# Altium integrated library CON-ILUMINATION.IntLib: 16 symbols
Pins are listed as number, name and electrical type; pins without a type are passive.

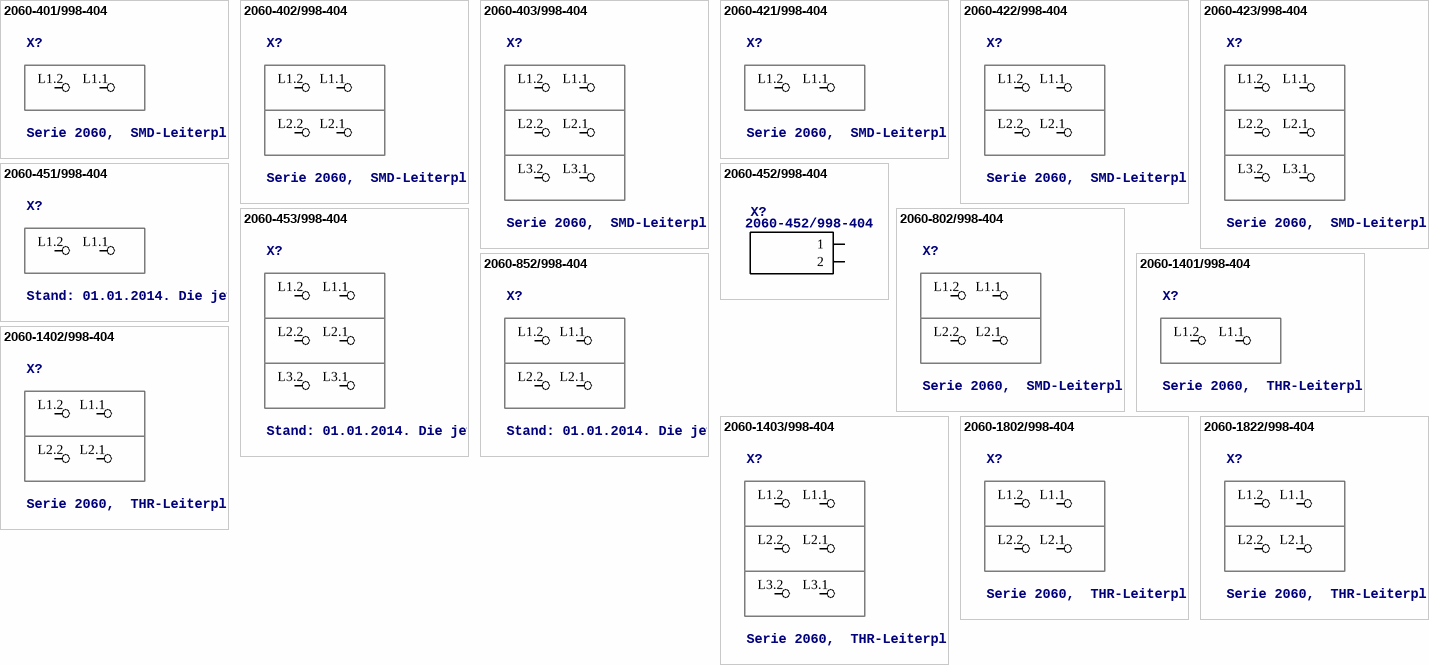
[diagram p0: symbols 2060-401/998-404 to 2060-1822/998-404]

## 2060-401/998-404
designator X?, comment Serie 2060,  SMD-Leiterplattenklemme mit Betätigungsdrückern im Gurt 1-polig / Series 2060,  SMD terminal block with push-buttons in tape-and-reel packing 1-pole  Polzahl / Pole No.: 1  Rastermaß / Pitch: 4  mm Bemessungsspannung / Rated Voltage: 160 V Nennstrom / Nominal Current: 9 A Leiterquerschnitt / Conductor Size: 0.2 - 0.75 mm2 Anschlusstechnik / Connection Technology: CAGE CLAMP® S  Leitereinführung (zur Platine) / Conductor entry angle (to PCB): 0 ° Farbe / Color: lichtgrau / light gray   Stand: 01.01.2014. Die jeweils aktuellen Daten zu diesem Artikel finden Sie in unserem Produktkatalog, den Sie unter www.wago.com einsehen können.   As of: 01/01/2014. Please find the newest data for this article in our product catalogue, which can be viewed under www.wago.com.
footprint P-2060-401/998-404
pins: L1.1 P1.1, L1.2 P1.2

## 2060-402/998-404
designator X?, comment Serie 2060,  SMD-Leiterplattenklemme mit Betätigungsdrückern im Gurt 2-polig / Series 2060,  SMD terminal block with push-buttons in tape-and-reel packing 2-pole  Polzahl / Pole No.: 2  Rastermaß / Pitch: 4  mm Bemessungsspannung / Rated Voltage: 160 V Nennstrom / Nominal Current: 9 A Leiterquerschnitt / Conductor Size: 0.2 - 0.75 mm2 Anschlusstechnik / Connection Technology: CAGE CLAMP® S  Leitereinführung (zur Platine) / Conductor entry angle (to PCB): 0 ° Farbe / Color: lichtgrau / light gray   Stand: 01.01.2014. Die jeweils aktuellen Daten zu diesem Artikel finden Sie in unserem Produktkatalog, den Sie unter www.wago.com einsehen können.   As of: 01/01/2014. Please find the newest data for this article in our product catalogue, which can be viewed under www.wago.com.
footprint P-2060-402/998-404
pins: L1.1 P1.1, L1.2 P1.2, L2.1 P2.1, L2.2 P2.2

## 2060-403/998-404
designator X?, comment Serie 2060,  SMD-Leiterplattenklemme mit Betätigungsdrückern im Gurt 3-polig / Series 2060,  SMD terminal block with push-buttons in tape-and-reel packing 3-pole  Polzahl / Pole No.: 3  Rastermaß / Pitch: 4  mm Bemessungsspannung / Rated Voltage: 160 V Nennstrom / Nominal Current: 9 A Leiterquerschnitt / Conductor Size: 0.2 - 0.75 mm2 Anschlusstechnik / Connection Technology: CAGE CLAMP® S  Leitereinführung (zur Platine) / Conductor entry angle (to PCB): 0 ° Farbe / Color: lichtgrau / light gray   Stand: 01.01.2014. Die jeweils aktuellen Daten zu diesem Artikel finden Sie in unserem Produktkatalog, den Sie unter www.wago.com einsehen können.   As of: 01/01/2014. Please find the newest data for this article in our product catalogue, which can be viewed under www.wago.com.
footprint P-2060-403/998-404
pins: L1.1 P1.1, L1.2 P1.2, L2.1 P2.1, L2.2 P2.2, L3.1 P3.1, L3.2 P3.2

## 2060-421/998-404
designator X?, comment Serie 2060,  SMD-Leiterplattenklemme mit Betätigungsdrückern im Gurt 1-polig / Series 2060,  SMD terminal block with push-buttons in tape-and-reel packing 1-pole  Polzahl / Pole No.: 1  Rastermaß / Pitch: 4  mm Bemessungsspannung / Rated Voltage: 160 V Nennstrom / Nominal Current: 9 A Leiterquerschnitt / Conductor Size: 0.2 - 0.75 mm2 Anschlusstechnik / Connection Technology: CAGE CLAMP® S  Leitereinführung (zur Platine) / Conductor entry angle (to PCB): 0 ° Farbe / Color: schwarz / black   Stand: 01.01.2014. Die jeweils aktuellen Daten zu diesem Artikel finden Sie in unserem Produktkatalog, den Sie unter www.wago.com einsehen können.   As of: 01/01/2014. Please find the newest data for this article in our product catalogue, which can be viewed under www.wago.com.
footprint P-2060-421/998-404
pins: L1.1 P1.1, L1.2 P1.2

## 2060-422/998-404
designator X?, comment Serie 2060,  SMD-Leiterplattenklemme mit Betätigungsdrückern im Gurt 2-polig / Series 2060,  SMD terminal block with push-buttons in tape-and-reel packing 2-pole  Polzahl / Pole No.: 2  Rastermaß / Pitch: 4  mm Bemessungsspannung / Rated Voltage: 160 V Nennstrom / Nominal Current: 9 A Leiterquerschnitt / Conductor Size: 0.2 - 0.75 mm2 Anschlusstechnik / Connection Technology: CAGE CLAMP® S  Leitereinführung (zur Platine) / Conductor entry angle (to PCB): 0 ° Farbe / Color: schwarz / black   Stand: 01.01.2014. Die jeweils aktuellen Daten zu diesem Artikel finden Sie in unserem Produktkatalog, den Sie unter www.wago.com einsehen können.   As of: 01/01/2014. Please find the newest data for this article in our product catalogue, which can be viewed under www.wago.com.
footprint P-2060-422/998-404
pins: L1.1 P1.1, L1.2 P1.2, L2.1 P2.1, L2.2 P2.2

## 2060-423/998-404
designator X?, comment Serie 2060,  SMD-Leiterplattenklemme mit Betätigungsdrückern im Gurt 3-polig / Series 2060,  SMD terminal block with push-buttons in tape-and-reel packing 3-pole  Polzahl / Pole No.: 3  Rastermaß / Pitch: 4  mm Bemessungsspannung / Rated Voltage: 160 V Nennstrom / Nominal Current: 9 A Leiterquerschnitt / Conductor Size: 0.2 - 0.75 mm2 Anschlusstechnik / Connection Technology: CAGE CLAMP® S  Leitereinführung (zur Platine) / Conductor entry angle (to PCB): 0 ° Farbe / Color: schwarz / black   Stand: 01.01.2014. Die jeweils aktuellen Daten zu diesem Artikel finden Sie in unserem Produktkatalog, den Sie unter www.wago.com einsehen können.   As of: 01/01/2014. Please find the newest data for this article in our product catalogue, which can be viewed under www.wago.com.
footprint P-2060-423/998-404
pins: L1.1 P1.1, L1.2 P1.2, L2.1 P2.1, L2.2 P2.2, L3.1 P3.1, L3.2 P3.2

## 2060-451/998-404
designator X?, comment Stand: 01.01.2014. Die jeweils aktuellen Daten zu diesem Artikel finden Sie in unserem Produktkatalog, den Sie unter www.wago.com einsehen können.   As of: 01/01/2014. Please find the newest data for this article in our product catalogue, which can be viewed under www.wago.com.
footprint P-2060-451/998-404
pins: L1.1 P1.1, L1.2 P1.2

## 2060-452/998-404
designator X?
footprint P-2060-452/998-404
pins: 1, 2

## 2060-453/998-404
designator X?, comment Stand: 01.01.2014. Die jeweils aktuellen Daten zu diesem Artikel finden Sie in unserem Produktkatalog, den Sie unter www.wago.com einsehen können.   As of: 01/01/2014. Please find the newest data for this article in our product catalogue, which can be viewed under www.wago.com.
footprint P-2060-453/998-404
pins: L1.1 P1.1, L1.2 P1.2, L2.1 P2.1, L2.2 P2.2, L3.1 P3.1, L3.2 P3.2

## 2060-802/998-404
designator X?, comment Serie 2060,  SMD-Leiterplattenklemme mit Betätigungsdrückern im Gurt 2-polig / Series 2060,  SMD terminal block with push-buttons in tape-and-reel packing 2-pole  Polzahl / Pole No.: 2  Rastermaß / Pitch: 8  mm Bemessungsspannung / Rated Voltage: 630 V Nennstrom / Nominal Current: 9 A Leiterquerschnitt / Conductor Size: 0.2 - 0.75 mm2 Anschlusstechnik / Connection Technology: CAGE CLAMP® S  Leitereinführung (zur Platine) / Conductor entry angle (to PCB): 0 ° Farbe / Color: lichtgrau / light gray   Stand: 01.01.2014. Die jeweils aktuellen Daten zu diesem Artikel finden Sie in unserem Produktkatalog, den Sie unter www.wago.com einsehen können.   As of: 01/01/2014. Please find the newest data for this article in our product catalogue, which can be viewed under www.wago.com.
footprint P-2060-802/998-404
pins: L1.1 P1.1, L1.2 P1.2, L2.1 P2.1, L2.2 P2.2

## 2060-852/998-404
designator X?, comment Stand: 01.01.2014. Die jeweils aktuellen Daten zu diesem Artikel finden Sie in unserem Produktkatalog, den Sie unter www.wago.com einsehen können.   As of: 01/01/2014. Please find the newest data for this article in our product catalogue, which can be viewed under www.wago.com.
footprint P-2060-852/998-404
pins: L1.1 P1.1, L1.2 P1.2, L2.1 P2.1, L2.2 P2.2

## 2060-1401/998-404
designator X?, comment Serie 2060,  THR-Leiterplattenklemme mit Betätigungsdrückern im Gurt 1-polig / Series 2060,  THR terminal block with push-buttons in tape-and-reel packing 1-pole  Polzahl / Pole No.: 1  Rastermaß / Pitch: 4  mm Bemessungsspannung / Rated Voltage: 160 V Nennstrom / Nominal Current: 9 A Leiterquerschnitt / Conductor Size: 0.2 - 0.75 mm2 Anschlusstechnik / Connection Technology: CAGE CLAMP® S  Leitereinführung (zur Platine) / Conductor entry angle (to PCB): 0 ° Farbe / Color: lichtgrau / light gray   Stand: 01.01.2014. Die jeweils aktuellen Daten zu diesem Artikel finden Sie in unserem Produktkatalog, den Sie unter www.wago.com einsehen können.   As of: 01/01/2014. Please find the newest data for this article in our product catalogue, which can be viewed under www.wago.com.
footprint P-2060-1401/998-404
pins: L1.1 P1.1, L1.2 P1.2

## 2060-1402/998-404
designator X?, comment Serie 2060,  THR-Leiterplattenklemme mit Betätigungsdrückern im Gurt 2-polig / Series 2060,  THR terminal block with push-buttons in tape-and-reel packing 2-pole  Polzahl / Pole No.: 2  Rastermaß / Pitch: 4  mm Bemessungsspannung / Rated Voltage: 160 V Nennstrom / Nominal Current: 9 A Leiterquerschnitt / Conductor Size: 0.2 - 0.75 mm2 Anschlusstechnik / Connection Technology: CAGE CLAMP® S  Leitereinführung (zur Platine) / Conductor entry angle (to PCB): 0 ° Farbe / Color: lichtgrau / light gray   Stand: 01.01.2014. Die jeweils aktuellen Daten zu diesem Artikel finden Sie in unserem Produktkatalog, den Sie unter www.wago.com einsehen können.   As of: 01/01/2014. Please find the newest data for this article in our product catalogue, which can be viewed under www.wago.com.
footprint P-2060-1402/998-404
pins: L1.1 P1.1, L1.2 P1.2, L2.1 P2.1, L2.2 P2.2

## 2060-1403/998-404
designator X?, comment Serie 2060,  THR-Leiterplattenklemme mit Betätigungsdrückern im Gurt 3-polig / Series 2060,  THR terminal block with push-buttons in tape-and-reel packing 3-pole  Polzahl / Pole No.: 3  Rastermaß / Pitch: 4  mm Bemessungsspannung / Rated Voltage: 160 V Nennstrom / Nominal Current: 9 A Leiterquerschnitt / Conductor Size: 0.2 - 0.75 mm2 Anschlusstechnik / Connection Technology: CAGE CLAMP® S  Leitereinführung (zur Platine) / Conductor entry angle (to PCB): 0 ° Farbe / Color: lichtgrau / light gray   Stand: 01.01.2014. Die jeweils aktuellen Daten zu diesem Artikel finden Sie in unserem Produktkatalog, den Sie unter www.wago.com einsehen können.   As of: 01/01/2014. Please find the newest data for this article in our product catalogue, which can be viewed under www.wago.com.
footprint P-2060-1403/998-404
pins: L1.1 P1.1, L1.2 P1.2, L2.1 P2.1, L2.2 P2.2, L3.1 P3.1, L3.2 P3.2

## 2060-1802/998-404
designator X?, comment Serie 2060,  THR-Leiterplattenklemme mit Betätigungsdrückern im Gurt 2-polig / Series 2060,  THR terminal block with push-buttons in tape-and-reel packing 2-pole  Polzahl / Pole No.: 2  Rastermaß / Pitch: 8  mm Bemessungsspannung / Rated Voltage: 630 V Nennstrom / Nominal Current: 9 A Leiterquerschnitt / Conductor Size: 0.2 - 0.75 mm2 Anschlusstechnik / Connection Technology: CAGE CLAMP® S  Leitereinführung (zur Platine) / Conductor entry angle (to PCB): 0 ° Farbe / Color: lichtgrau / light gray   Stand: 01.01.2014. Die jeweils aktuellen Daten zu diesem Artikel finden Sie in unserem Produktkatalog, den Sie unter www.wago.com einsehen können.   As of: 01/01/2014. Please find the newest data for this article in our product catalogue, which can be viewed under www.wago.com.
footprint P-2060-1802/998-404
pins: L1.1 P1.1, L1.2 P1.2, L2.1 P2.1, L2.2 P2.2

## 2060-1822/998-404
designator X?, comment Serie 2060,  THR-Leiterplattenklemme mit Betätigungsdrückern im Gurt 2-polig / Series 2060,  THR terminal block with push-buttons in tape-and-reel packing 2-pole  Polzahl / Pole No.: 2  Rastermaß / Pitch: 8  mm Bemessungsspannung / Rated Voltage: 630 V Nennstrom / Nominal Current: 9 A Leiterquerschnitt / Conductor Size: 0.2 - 0.75 mm2 Anschlusstechnik / Connection Technology: CAGE CLAMP® S  Leitereinführung (zur Platine) / Conductor entry angle (to PCB): 0 ° Farbe / Color: schwarz / black   Stand: 01.01.2014. Die jeweils aktuellen Daten zu diesem Artikel finden Sie in unserem Produktkatalog, den Sie unter www.wago.com einsehen können.   As of: 01/01/2014. Please find the newest data for this article in our product catalogue, which can be viewed under www.wago.com.
footprint P-2060-1822/998-404
pins: L1.1 P1.1, L1.2 P1.2, L2.1 P2.1, L2.2 P2.2